# EAGLE library part IFX1050GVIO (library CAN)
The HS CAN-transceiver IFX1050GVIO is optimized for high speed differential mode data transmission in industrial applications and is compatible to ISO/DIS 11898. It works as an interface between the CAN protocol controller and the physical differential bus in both, 12 V and 24 V systems. The IFX1050GVIO is designed to withstand the conditions of industrial applications and provides excellent EMC performance.
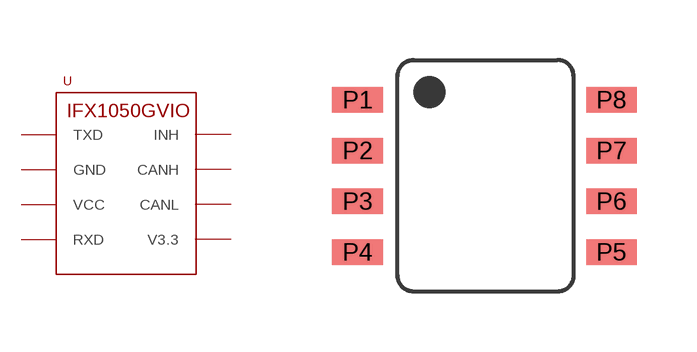
[diagram p3: symbol with the pads of PG-DSO-8; footprint PG-DSO-8]

Designator prefix U

## IFX1050GVIO  [PG-DSO-8]
P1  TXD
P2  GND  pwr
P3  VCC  pwr
P4  RXD
P5  V3.3  pwr
P6  CANL
P7  CANH
P8  INH

## Footprint PG-DSO-8 (pad centres in mm)
smd 1.27 x 0.635: P1 0,0; P2 0,-1.27; P3 0,-2.54; P4 0,-3.81; P5 6.35,-3.81; P6 6.35,-2.54; P7 6.35,-1.27; P8 6.35,0